# Altium schematic symbol library transistors.SchLib: 3 symbols
Pins are listed as number, name and electrical type; pins without a type are passive.

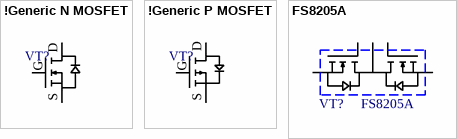
[diagram p0: symbols !Generic N MOSFET to FS8205A]

## !Generic N MOSFET
designator VT?  (value not drawn)
generic N mosfet; IsSMT: NoSMT
footprint SOT23-3; pin to pad D6>3 G2>1 S1>2
pins: D6, G2, S1
text: D; G; S

## !Generic P MOSFET
designator VT?  (value not drawn)
generic P mosfet; IsSMT: NoSMT
footprint SOT23-3; pin to pad D1>3 G2>1 S1>2
pins: D1, G2, S1
text: D; G; S

## FS8205A
designator VT?
double N-ch; IsSMT: NoSMT
footprint TSSOP-8 (TSOP, 8-Leads, Body 3,1x4,5mm (max), Pitch 0,65mm, IPC Medium Density)
pins: 1, 2 3, 3 4, 4, 5, 6 7, 7 6, 8 2